# EAGLE library part OPA2376 (library satellite)
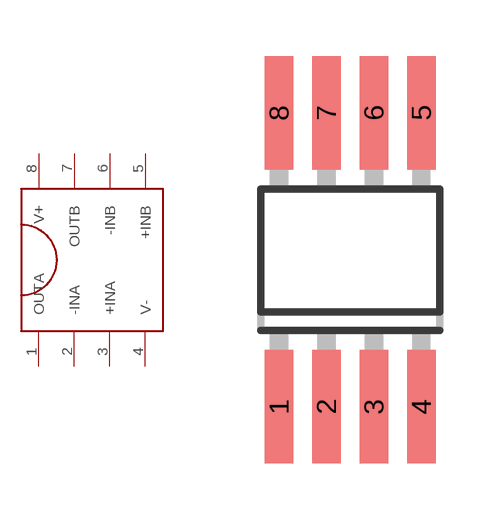
[diagram p16: symbol with the pads of SO-8; footprint SO-8]

Designator prefix -

## OPA2376  [SO-8]
1  OUTA
2  -INA
3  +INA
4  V-
5  +INB
6  -INB
7  OUTB
8  V+

## Footprint SO-8 (pad centres in mm)
smd 0.762 x 3.048: 1 -1.905,-3.937; 2 -0.635,-3.937; 3 0.635,-3.937; 4 1.905,-3.937; 5 1.905,3.937; 6 0.635,3.937; 7 -0.635,3.937; 8 -1.905,3.937